# EAGLE library part 91910-21515LF (library SHC)
Male 15 contact connector http://search.digikey.com/us/en/products/91910-21515LF/609-1581-ND/1001895
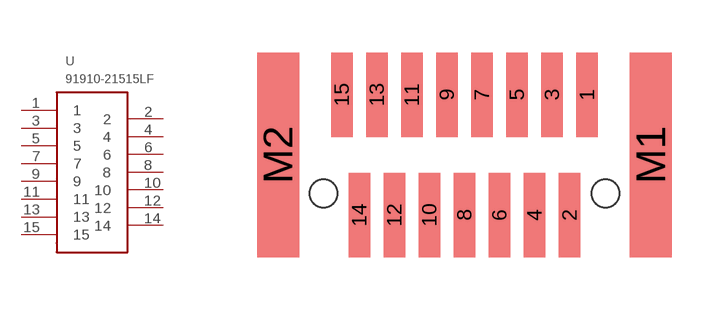
[diagram p29: symbol with the pads of 91910-21515LF; footprint 91910-21515LF]

Designator prefix -

## 91910-21515LF  [91910-21515LF]
1  1
2  2
3  3
4  4
5  5
6  6
7  7
8  8
9  9
10  10
11  11
12  12
13  13
14  14
15  15

## Footprint 91910-21515LF (pad centres in mm)
smd 0.61 x 2.413: 1 3.5,1.72; 2 3,-1.72; 3 2.5,1.72; 4 2,-1.72; 5 1.5,1.72; 6 1,-1.72; 7 0.5,1.72; 8 0,-1.72; 9 -0.5,1.72; 10 -1,-1.72; 11 -1.5,1.72; 12 -2,-1.72; 13 -2.5,1.72; 14 -3,-1.72; 15 -3.5,1.72
smd 1.2 x 5.85: M1 5.32,0; M2 -5.32,0
hole 0.8 at -4.026,-1.1
hole 0.8 at 4.026,-1.1